# Altium footprint library PRIMERPROYECTO.PcbLib: 3 footprints
Each footprint in its own frame and in the unit in brackets; x right, y up, seen from the top. Pads: shape width x height; smd on the part's side, far side on the other; paste and mask are expansions set on the pad; w line width, h text height; cw(c..) or ccw(c..) is an arc to the next point about the centre after c.
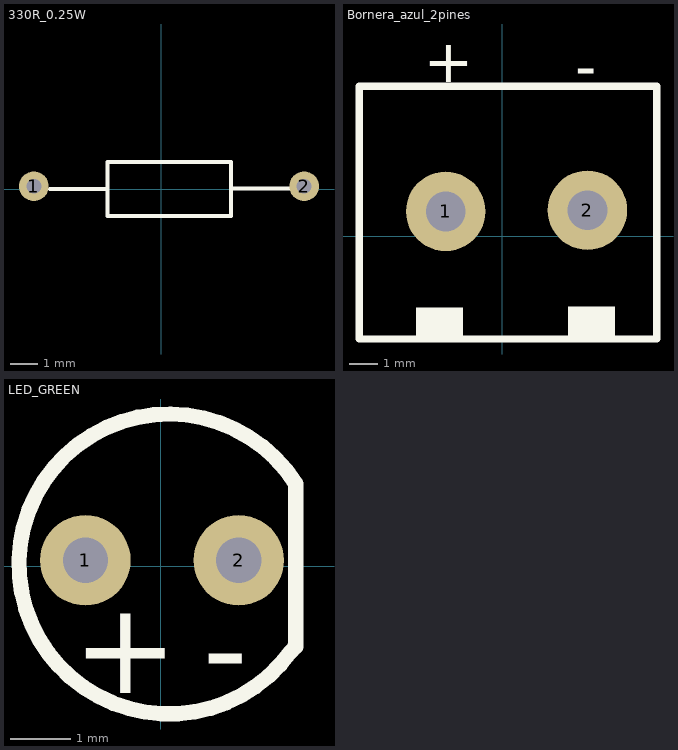
[diagram p0: the footprints below, top view; thin cyan lines are the x and y axes]

## 330R_0.25W [mm]
pads (2):
  round 1.1 hole 0.55: 1(-4.724,0.102) 2(5.283,0.102)
Top Overlay:
  lines w0.152: -4.132,0 -2,0 ; 2.622,0.017 4.754,0.017 ; -2,-1 2.572,-1 2.572,1 -2,1 -2,-1
3D body "R330.STEP": height 3.63, standoff -1.62, extent -4.978,-1.158 5.522,1.362

## Bornera_azul_2pines [mm]
pads (2):
  round 2.8 hole 1.4: 1(-1.993,0.872) 2(2.997,0.914)
Top Overlay:
  rectangle: -3.038,-3.584 -1.381,-2.507
  rectangle: 2.314,-3.544 3.972,-2.467
  lines w0.254: -5.034,-3.619 5.434,-3.619 5.434,5.276 0.674,5.276 -5.034,5.276 -5.034,-3.619
  text "-" at 2.567,5.234 h1.52
  text "+" at -2.769,5.418 h1.52
3D body "bornerav2.step": height 12.9, standoff -4.7, extent -5.107,-3.599 5.493,5.401

## LED_GREEN [mm]
pads (2):
  round 1.5 hole 0.75: 1(-1.245,0.102) 2(1.295,0.102)
Top Overlay:
  lines w0.254: 2.155,-1.414 cw(c0.14,0.04) 2.239,1.37 2.239,-1.23 2.239,-1.33 2.155,-1.414
  text "-" at 0.703,-2.098 h1.52
  text "+" at -1.458,-2.098 h1.52
3D body "LED_5mm.step": height 8.5, standoff -17.4, extent -2.513,-2.448 2.587,2.652